# EAGLE library part TLC272-OPAMP (library stutz-components-library)
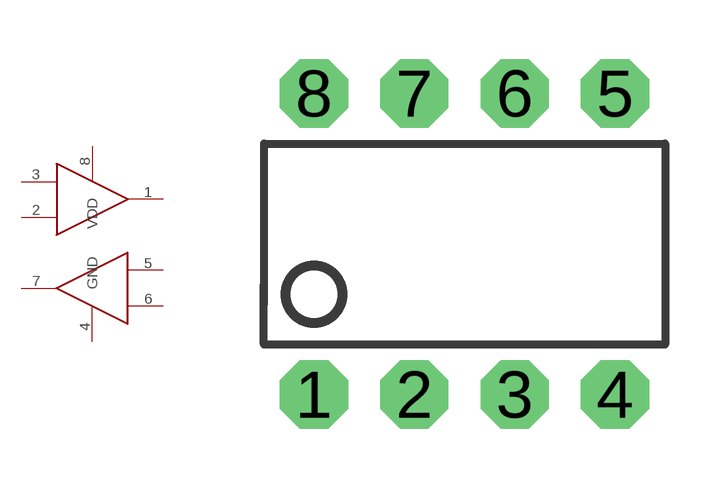
[diagram p17: symbol with the pads of PDIP-8PIN; footprint PDIP-8PIN]

Designator prefix -

## TLC272-OPAMPTLC272CP (MPN: TLC272CP)  [PDIP-8PIN]
1  1OUT  out
2  1IN-  in
3  1IN+  in
4  GND  pwr
5  2IN+  in
6  2IN-  in
7  2OUT  out
8  VDD  pwr

## Footprint PDIP-8PIN (pad centres in mm)
drill 0.813 pad 1.727 octagon: 1 -3.81,-3.81; 2 -1.27,-3.81; 3 1.27,-3.81; 4 3.81,-3.81; 5 3.81,3.81; 6 1.27,3.81; 7 -1.27,3.81; 8 -3.81,3.81